# EAGLE library part TA7317P (library Wskazniki wysterowania)
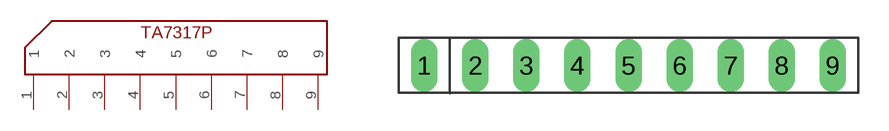
[diagram p7: symbol with the pads of SIP-9; footprint SIP-9]

Designator prefix -

## TA7317P  [SIP-9]
1  1
2  2
3  3
4  4
5  5
6  6
7  7
8  8
9  9

## Footprint SIP-9 (pad centres in mm)
drill 0.813 long: 1 -10.16,0; 2 -7.62,0; 3 -5.08,0; 4 -2.54,0; 5 0,0; 6 2.54,0; 7 5.08,0; 8 7.62,0; 9 10.16,0